# Altium footprint library vcnl4000.PcbLib: 2 footprints
Each footprint in its own frame and in the unit in brackets; x right, y up, seen from the top. Pads: shape width x height; smd on the part's side, far side on the other; paste and mask are expansions set on the pad; w line width, h text height; cw(c..) or ccw(c..) is an arc to the next point about the centre after c.
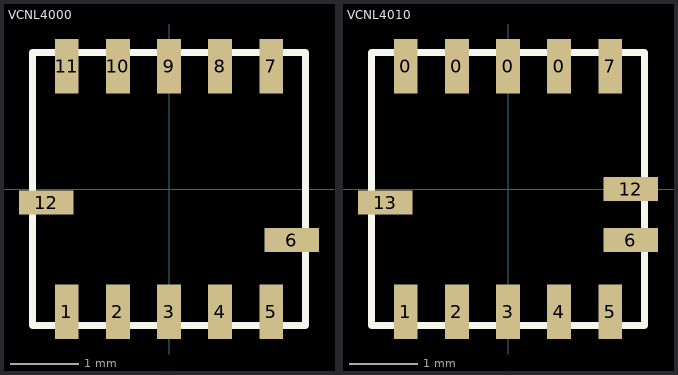
[diagram p0: the footprints below, top view; thin cyan lines are the x and y axes]

## VCNL4000 [mm]
pads (12):
  rect 0.35x0.8 smd: 1(-1.5,-1.8) 2(-0.75,-1.8) 3(0,-1.8) 4(0.75,-1.8) 5(1.5,-1.8) 7(1.5,1.8) 8(0.75,1.8) 9(0,1.8) 10(-0.75,1.8) 11(-1.5,1.8)
  rect 0.8x0.35 smd: 6(1.8,-0.75) 12(-1.8,-0.2)
Top Overlay:
  lines w0.1: -2,-2 -2,2 2,2 2,-2 -2,-2
3D body: height 0.75, standoff 0, extent -2,-2 2,2

## VCNL4010 [mm]
pads (13):
  rect 0.35x0.8 smd: 0(-1.5,1.8) 0(-0.75,1.8) 0(0,1.8) 0(0.75,1.8) 1(-1.5,-1.8) 2(-0.75,-1.8) 3(0,-1.8) 4(0.75,-1.8) 5(1.5,-1.8) 7(1.5,1.8)
  rect 0.8x0.35 smd: 6(1.8,-0.75) 12(1.8,0) 13(-1.8,-0.2)
Top Overlay:
  lines w0.1: -2,-2 2,-2 2,2 -2,2 -2,-2
3D body: height 0.75, standoff 0, extent -2,-2 2,2